# EAGLE library part IC_LPC2368 (library 0kaz)
LPC2368 32 bit ARM7TDMI-S processor from NXP (used to be Philps) Single chip, 32 bit microcontroller, up to 512kB flash with ISP/IAP, Ethernet, USB 2.0, CAN, and 10 bit ADC/DAC. Package is 100 pins and measures 14mm x 14mm x 1.3mm with 0.5mm pitch.
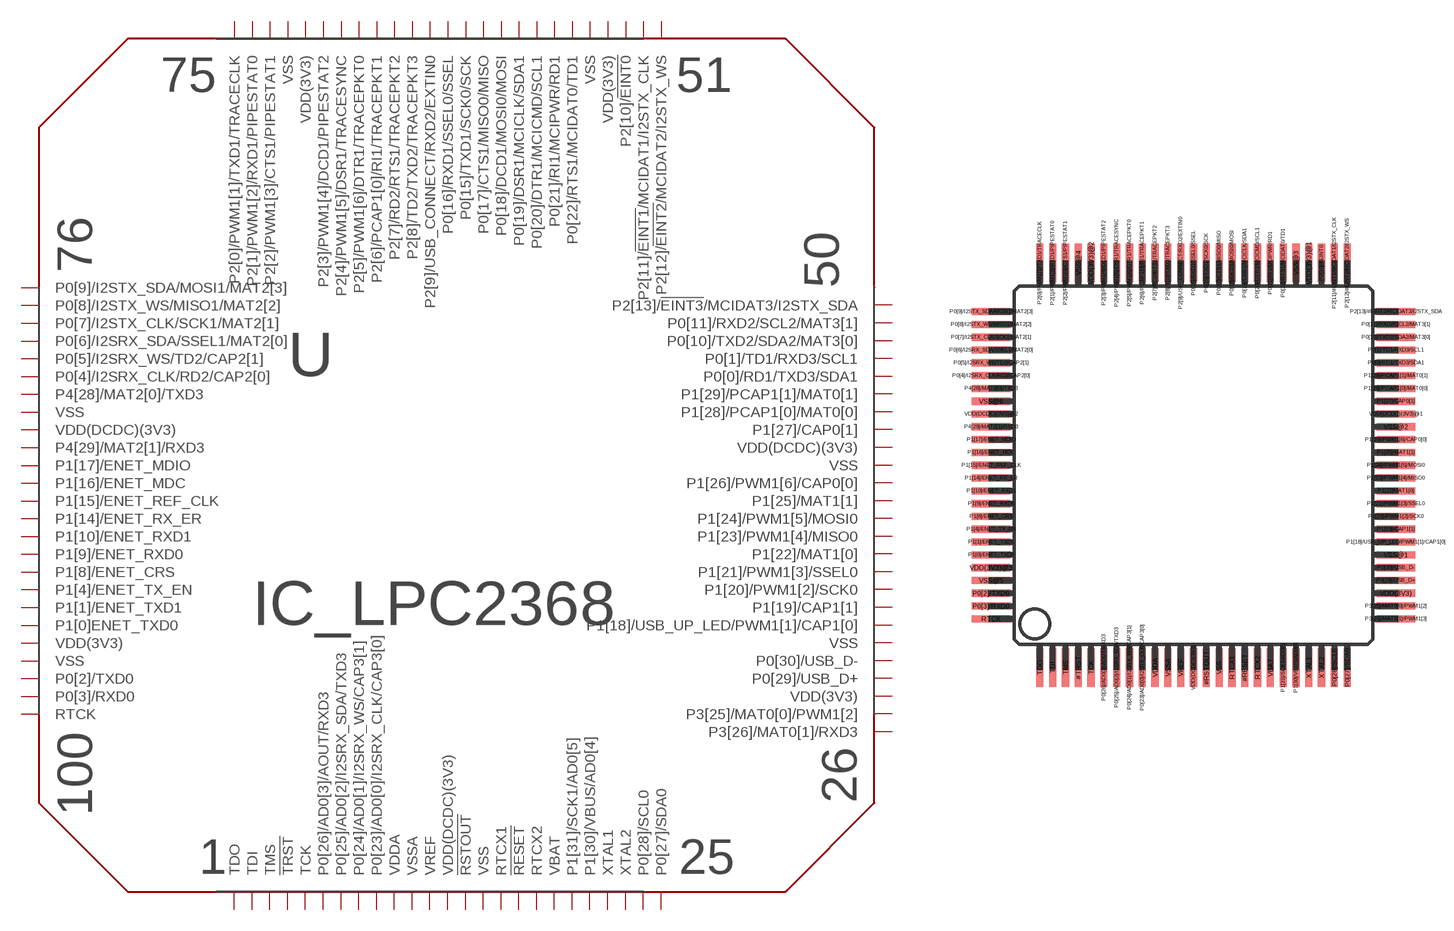
[diagram p4: symbol with the pads of LQFP100; footprint LQFP100]

Designator prefix -

## IC_LPC2368  [LQFP100]
#RESET  !RESET!
#RSTOUT  !RSTOUT!
#TRST  !TRST!
P0[0]/RD1/TXD3/SDA1  P0[0]/RD1/TXD3/SDA1
P0[1]/TD1/RXD3/SCL1  P0[1]/TD1/RXD3/SCL1
P0[2]/TXD0  P0[2]/TXD0
P0[3]/RXD0  P0[3]/RXD0
P0[4]/I2SRX_CLK/RD2/CAP2[0]  P0[4]/I2SRX_CLK/RD2/CAP2[0]
P0[5]/I2SRX_WS/TD2/CAP2[1]  P0[5]/I2SRX_WS/TD2/CAP2[1]
P0[6]/I2SRX_SDA/SSEL1/MAT2[0]  P0[6]/I2SRX_SDA/SSEL1/MAT2[0]
P0[7]/I2STX_CLK/SCK1/MAT2[1]  P0[7]/I2STX_CLK/SCK1/MAT2[1]
P0[8]/I2STX_WS/MISO1/MAT2[2]  P0[8]/I2STX_WS/MISO1/MAT2[2]
P0[9]/I2STX_SDA/MOSI1/MAT2[3]  P0[9]/I2STX_SDA/MOSI1/MAT2[3]
P0[10]/TXD2/SDA2/MAT3[0]  P0[10]/TXD2/SDA2/MAT3[0]
P0[11]/RXD2/SCL2/MAT3[1]  P0[11]/RXD2/SCL2/MAT3[1]
P0[15]/TXD1/SCK0/SCK  P0[15]/TXD1/SCK0/SCK
P0[16]/RXD1/SSEL0/SSEL  P0[16]/RXD1/SSEL0/SSEL
P0[17]/CTS1/MISO0/MISO  P0[17]/CTS1/MISO0/MISO
P0[18]/DCD1/MOSI0/MOSI  P0[18]/DCD1/MOSI0/MOSI
P0[19]/DSR1/MCICLK/SDA1  P0[19]/DSR1/MCICLK/SDA1
P0[20]/DTR1/MCICMD/SCL1  P0[20]/DTR1/MCICMD/SCL1
P0[21]/RI1/MCIPWR/RD1  P0[21]/RI1/MCIPWR/RD1
P0[22]/RTS1/MCIDAT0/TD1  P0[22]/RTS1/MCIDAT0/TD1
P0[23]/AD0[0]/I2SRX_CLK/CAP3[0]  P0[23]/AD0[0]/I2SRX_CLK/CAP3[0]
P0[24]/AD0[1]/I2SRX_WS/CAP3[1]  P0[24]/AD0[1]/I2SRX_WS/CAP3[1]
P0[25]/AD0[2]/I2SRX_SDA/TXD3  P0[25]/AD0[2]/I2SRX_SDA/TXD3
P0[26]/AD0[3]/AOUT/RXD3  P0[26]/AD0[3]/AOUT/RXD3
P0[27]/SDA0  P0[27]/SDA0
P0[28]/SCL0  P0[28]/SCL0
P0[29]/USB_D+  P0[29]/USB_D+
P0[30]/USB_D-  P0[30]/USB_D-
P1[0]/ENET_TXD0  P1[0]ENET_TXD0
P1[1]/ENET_TXD1  P1[1]/ENET_TXD1
P1[4]/ENET_TX_EN  P1[4]/ENET_TX_EN
P1[8]/ENET_CRS  P1[8]/ENET_CRS
P1[9]/ENET_RXD0  P1[9]/ENET_RXD0
P1[10]/ENET_RXD1  P1[10]/ENET_RXD1
P1[14]/ENET_RX_ER  P1[14]/ENET_RX_ER
P1[15]/ENET_REF_CLK  P1[15]/ENET_REF_CLK
P1[16]/ENET_MDC  P1[16]/ENET_MDC
P1[17]/ENET_MDIO  P1[17]/ENET_MDIO
P1[18]/USB_UP_LED/PWM1[1]/CAP1[0]  P1[18]/USB_UP_LED/PWM1[1]/CAP1[0]
P1[19]/CAP1[1]  P1[19]/CAP1[1]
P1[20]/PWM1[2]/SCK0  P1[20]/PWM1[2]/SCK0
P1[21]/PWM1[3]/SSEL0  P1[21]/PWM1[3]/SSEL0
P1[22]MAT1[0]  P1[22]/MAT1[0]
P1[23]/PWM1[4]/MISO0  P1[23]/PWM1[4]/MISO0
P1[24]/PWM1[5]/MOSI0  P1[24]/PWM1[5]/MOSI0
P1[25]/MAT1[1]  P1[25]/MAT1[1]
P1[26]/PWM1[6]/CAP0[0]  P1[26]/PWM1[6]/CAP0[0]
P1[27]/CAP0[1]  P1[27]/CAP0[1]
P1[28]/PCAP1[0]/MAT0[0]  P1[28]/PCAP1[0]/MAT0[0]
P1[29]/PCAP1[1]/MAT0[1]  P1[29]/PCAP1[1]/MAT0[1]
P1[30]/VBUS/AD0[4]  P1[30]/VBUS/AD0[4]
P1[31]/SCK1/AD0[5]  P1[31]/SCK1/AD0[5]
P2[0]/PWM1[1]/TXD1/TRACECLK  P2[0]/PWM1[1]/TXD1/TRACECLK
P2[1]/PWM1[2]/RXD1/PIPESTAT0  P2[1]/PWM1[2]/RXD1/PIPESTAT0
P2[2]/PWM1[3]/CTS1/PIPESTAT1  P2[2]/PWM1[3]/CTS1/PIPESTAT1
P2[3]/PWM1[4]/DCD1/PIPESTAT2  P2[3]/PWM1[4]/DCD1/PIPESTAT2
P2[4]/PWM1[5]/DSR1/TRACESYNC  P2[4]/PWM1[5]/DSR1/TRACESYNC
P2[5]/PWM1[6]/DTR1/TRACEPKT0  P2[5]/PWM1[6]/DTR1/TRACEPKT0
P2[6]/PCAP1[0]/RI1/TRACEPKT1  P2[6]/PCAP1[0]/RI1/TRACEPKT1
P2[7]/RD2/RTS1/TRACEPKT2  P2[7]/RD2/RTS1/TRACEPKT2
P2[8]/TD2/TXD2/TRACEPKT3  P2[8]/TD2/TXD2/TRACEPKT3
P2[9]/USB_CONNECT/RXD2/EXTIN0  P2[9]/USB_CONNECT/RXD2/EXTIN0
P2[10]/#EINT0  P2[10]/!EINT0!
P2[11]/#EINT1/MCIDAT1/I2STX_CLK  P2[11]/!EINT1!/MCIDAT1/I2STX_CLK
P2[12]/#EINT2/MCIDAT2/I2STX_WS  P2[12]/!EINT2!/MCIDAT2/I2STX_WS
P2[13]/#EINT3/MCIDAT3/I2STX_SDA  P2[13]/!EINT3!/MCIDAT3/I2STX_SDA
P3[25]/MAT0[0]/PWM1[2]  P3[25]/MAT0[0]/PWM1[2]
P3[26]/MAT0[1]/PWM1[3]  P3[26]/MAT0[1]/RXD3
P4[28]/MAT2[0]/TXD3  P4[28]/MAT2[0]/TXD3
P4[29]/MAT2[1]/RXD3  P4[29]/MAT2[1]/RXD3
RTCK  RTCK
RTCX1  RTCX1
RTCX2  RTCX2
TCK  TCK
TDI  TDI
TDO  TDO
TMS  TMS
VBAT  VBAT
VDD(3V3)  VDD(3V3)
VDD(3V3)@1  VDD(3V3)
VDD(3V3)@2  VDD(3V3)
VDD(3V3)@3  VDD(3V3)
VDD(DCDC)(3V3)  VDD(DCDC)(3V3)
VDD(DCDC)(3V3)@1  VDD(DCDC)(3V3)
VDD(DCDC)(3V3)@2  VDD(DCDC)(3V3)
VDDA  VDDA
VREF  VREF
VSS  VSS
VSS@1  VSS
VSS@2  VSS
VSS@3  VSS
VSS@4  VSS
VSS@5  VSS
VSS@6  VSS
VSSA  VSSA
XTAL1  XTAL1
XTAL2  XTAL2

## Footprint LQFP100 (pad centres in mm)
SOT407-1 (LQFP100) This is a 14mm x14mm, 100 pin package for philips microcontrollers.
smd 0.28 x 1.5: #RESET 2,-7.9; #RSTOUT 0.5,-7.9; #TRST -4.5,-7.9; P0[15]/TXD1/SCK0/SCK 0.5,7.9; P0[16]/RXD1/SSEL0/SSEL 0,7.9; P0[17]/CTS1/MISO0/MISO 1,7.9; P0[18]/DCD1/MOSI0/MOSI 1.5,7.9; P0[19]/DSR1/MCICLK/SDA1 2,7.9; P0[20]/DTR1/MCICMD/SCL1 2.5,7.9; P0[21]/RI1/MCIPWR/RD1 3,7.9; P0[22]/RTS1/MCIDAT0/TD1 3.5,7.9; P0[23]/AD0[0]/I2SRX_CLK/CAP3[0] -2,-7.9; P0[24]/AD0[1]/I2SRX_WS/CAP3[1] -2.5,-7.9; P0[25]/AD0[2]/I2SRX_SDA/TXD3 -3,-7.9; P0[26]/AD0[3]/AOUT/RXD3 -3.5,-7.9; P0[27]/SDA0 6,-7.9; P0[28]/SCL0 5.5,-7.9; P1[30]/VBUS/AD0[4] 4,-7.9; P1[31]/SCK1/AD0[5] 3.5,-7.9; P2[0]/PWM1[1]/TXD1/TRACECLK -6,7.9; P2[1]/PWM1[2]/RXD1/PIPESTAT0 -5.5,7.9; P2[2]/PWM1[3]/CTS1/PIPESTAT1 -5,7.9; P2[3]/PWM1[4]/DCD1/PIPESTAT2 -3.5,7.9; P2[4]/PWM1[5]/DSR1/TRACESYNC -3,7.9; P2[5]/PWM1[6]/DTR1/TRACEPKT0 -2.5,7.9; P2[6]/PCAP1[0]/RI1/TRACEPKT1 -2,7.9; P2[7]/RD2/RTS1/TRACEPKT2 -1.5,7.9; P2[8]/TD2/TXD2/TRACEPKT3 -1,7.9; P2[9]/USB_CONNECT/RXD2/EXTIN0 -0.5,7.9; P2[10]/#EINT0 5,7.9; P2[11]/#EINT1/MCIDAT1/I2STX_CLK 5.5,7.9; P2[12]/#EINT2/MCIDAT2/I2STX_WS 6,7.9; RTCX1 1.5,-7.9; RTCX2 2.5,-7.9; TCK -4,-7.9; TDI -5.5,-7.9; TDO -6,-7.9; TMS -5,-7.9; VBAT 3,-7.9; VDD(3V3)@1 4.5,7.9; VDD(3V3)@2 -4,7.9; VDD(DCDC)(3V3) 0,-7.9; VDDA -1.5,-7.9; VREF -0.5,-7.9; VSS 1,-7.9; VSS@3 4,7.9; VSS@4 -4.5,7.9; VSSA -1,-7.9; XTAL1 4.5,-7.9; XTAL2 5,-7.9
smd 1.5 x 0.28: P0[0]/RD1/TXD3/SDA1 7.9,4; P0[1]/TD1/RXD3/SCL1 7.9,4.5; P0[2]/TXD0 -7.9,-5; P0[3]/RXD0 -7.9,-5.5; P0[4]/I2SRX_CLK/RD2/CAP2[0] -7.9,3.5; P0[5]/I2SRX_WS/TD2/CAP2[1] -7.9,4; P0[6]/I2SRX_SDA/SSEL1/MAT2[0] -7.9,4.5; P0[7]/I2STX_CLK/SCK1/MAT2[1] -7.9,5; P0[8]/I2STX_WS/MISO1/MAT2[2] -7.9,5.5; P0[9]/I2STX_SDA/MOSI1/MAT2[3] -7.9,6; P0[10]/TXD2/SDA2/MAT3[0] 7.9,5; P0[11]/RXD2/SCL2/MAT3[1] 7.9,5.5; P0[29]/USB_D+ 7.9,-4.5; P0[30]/USB_D- 7.9,-4; P1[0]/ENET_TXD0 -7.9,-3.5; P1[1]/ENET_TXD1 -7.9,-3; P1[4]/ENET_TX_EN -7.9,-2.5; P1[8]/ENET_CRS -7.9,-2; P1[9]/ENET_RXD0 -7.9,-1.5; P1[10]/ENET_RXD1 -7.9,-1; P1[14]/ENET_RX_ER -7.9,-0.5; P1[15]/ENET_REF_CLK -7.9,0; P1[16]/ENET_MDC -7.9,0.5; P1[17]/ENET_MDIO -7.9,1; P1[18]/USB_UP_LED/PWM1[1]/CAP1[0] 7.9,-3; P1[19]/CAP1[1] 7.9,-2.5; P1[20]/PWM1[2]/SCK0 7.9,-2; P1[21]/PWM1[3]/SSEL0 7.9,-1.5; P1[22]MAT1[0] 7.9,-1; P1[23]/PWM1[4]/MISO0 7.9,-0.5; P1[24]/PWM1[5]/MOSI0 7.9,0; P1[25]/MAT1[1] 7.9,0.5; P1[26]/PWM1[6]/CAP0[0] 7.9,1; P1[27]/CAP0[1] 7.9,2.5; P1[28]/PCAP1[0]/MAT0[0] 7.9,3; P1[29]/PCAP1[1]/MAT0[1] 7.9,3.5; P2[13]/#EINT3/MCIDAT3/I2STX_SDA 7.9,6; P3[25]/MAT0[0]/PWM1[2] 7.9,-5.5; P3[26]/MAT0[1]/PWM1[3] 7.9,-6; P4[28]/MAT2[0]/TXD3 -7.9,3; P4[29]/MAT2[1]/RXD3 -7.9,1.5; RTCK -7.9,-6; VDD(3V3) 7.9,-5; VDD(3V3)@3 -7.9,-4; VDD(DCDC)(3V3)@1 7.9,2; VDD(DCDC)(3V3)@2 -7.9,2; VSS@1 7.9,-3.5; VSS@2 7.9,1.5; VSS@5 -7.9,-4.5; VSS@6 -7.9,2.5